# Altium schematic symbol library SCH - DRIVER - LED - TI LM2751DSC.SchLib: 1 symbol
Pins are listed as number, name and electrical type; pins without a type are passive.

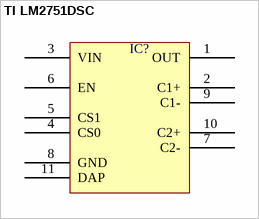
[diagram p0: symbol TI LM2751DSC]

## TI LM2751DSC
designator IC?  (value not drawn)
pins: 1 OUT, 2 C1+, 3 VIN, 4 CS0, 5 CS1, 6 EN, 7 C2-, 8 GND, 9 C1-, 10 C2+, 11 DAP